# EAGLE library part SELECT5 (library Gob)
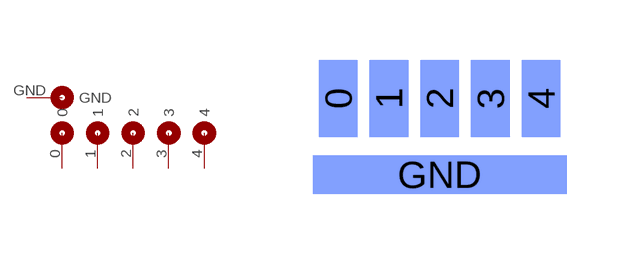
[diagram p0: symbol with the pads of SELECT5; footprint SELECT5]

Designator prefix SEL

## SELECT5  [SELECT5]
0  0
1  1
2  2
3  3
4  4
GND  GND

## Footprint SELECT5 (pad centres in mm)
Auswahlschalter auf Bottom-Seite, mit Lötpunkten zu überbrücken
smd 0.965 x 1.93 bottom: 0 -2.54,0; 1 -1.27,0; 2 0,0; 3 1.27,0; 4 2.54,0
smd 6.35 x 0.965 bottom: GND 0,-1.905